# Altium footprint library PcbLib.PcbLib: 41 footprints (part 1 of 3)
Each footprint in its own frame and in the unit in brackets; x right, y up, seen from the top. Pads: shape width x height; smd on the part's side, far side on the other; paste and mask are expansions set on the pad; w line width, h text height; cw(c..) or ccw(c..) is an arc to the next point about the centre after c.
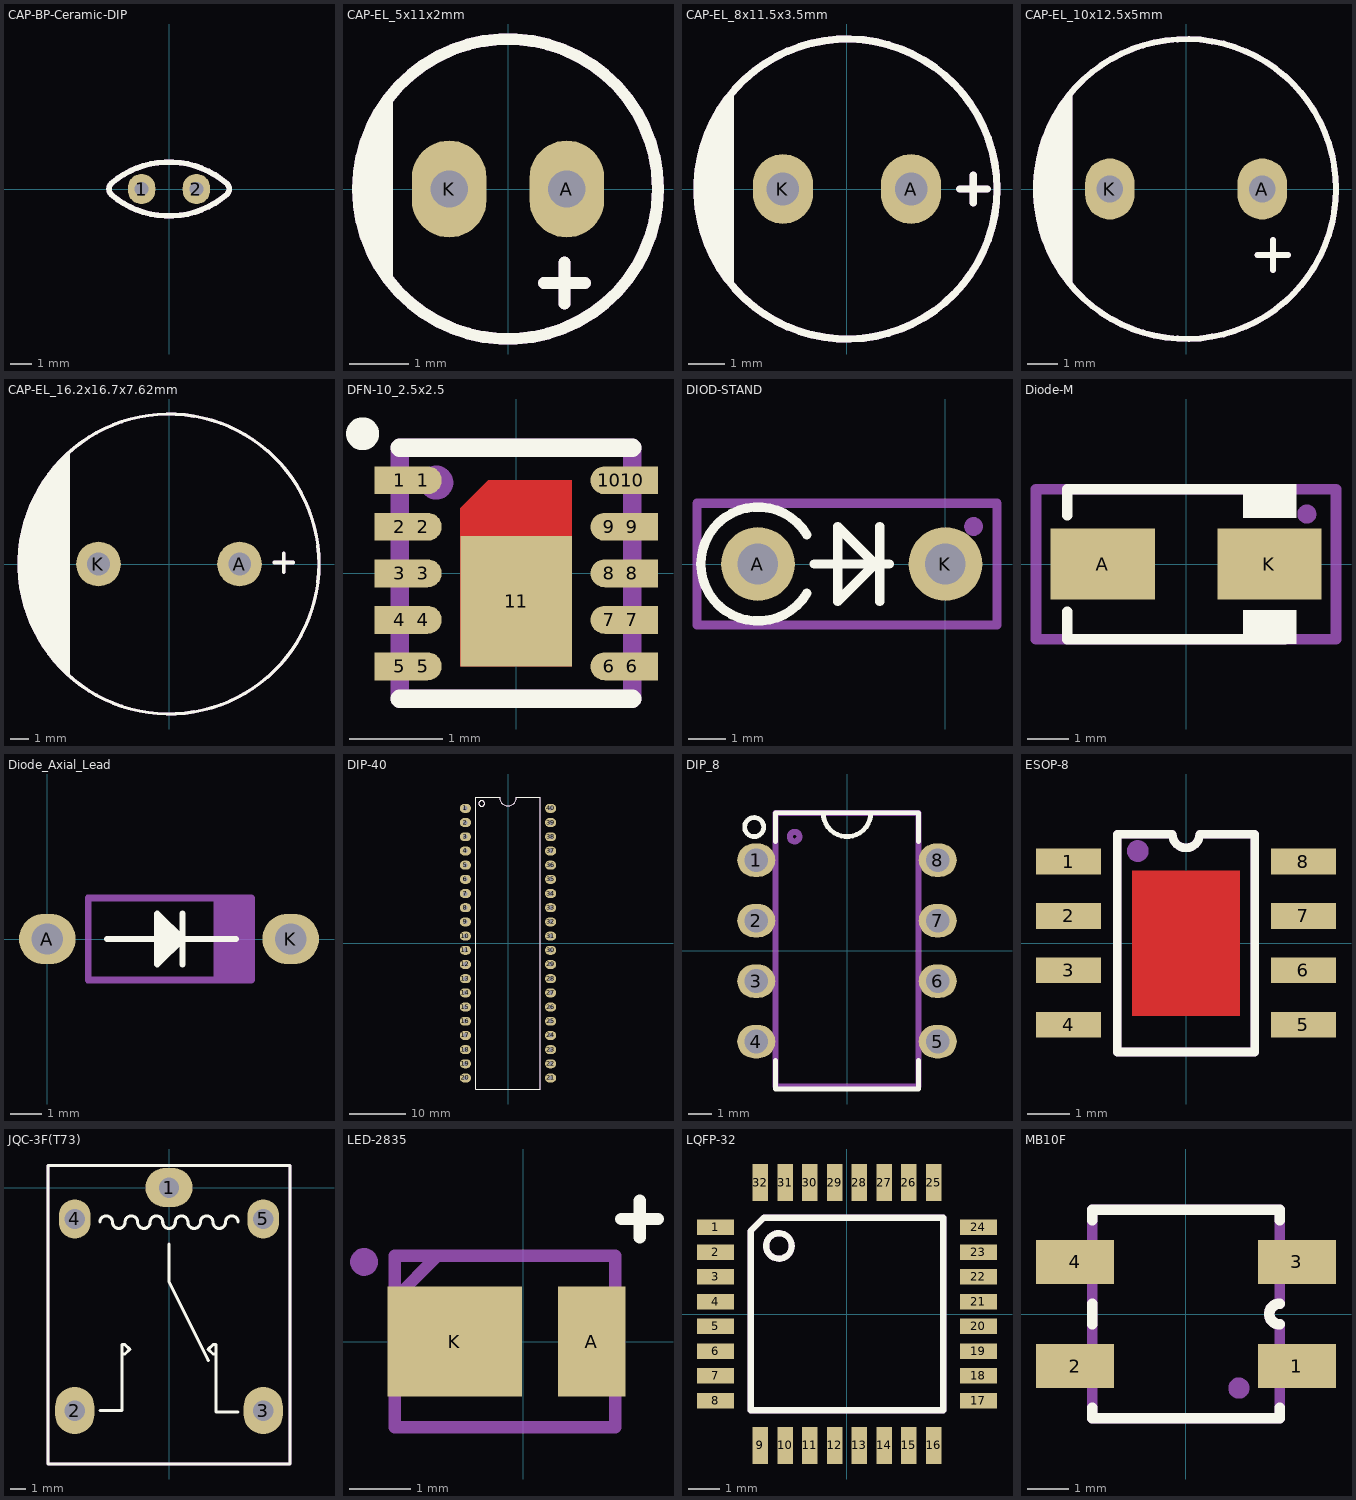
[diagram p0: the footprints below, top view; thin cyan lines are the x and y axes]

## CAP-BP-Ceramic-DIP [mil]
pads (2):
  oval 50x55 hole 25: 1(-50,0) 2(50,0)
Top Overlay:
  lines w10: -105.81,-9.79 ccw(c0,112.17) 106.05,-9.58 ; -105.81,9.79 cw(c0,-112.17) 106.05,9.58 ; -105.58,-9.52 cw(c-96.06,0) -105.58,9.52 ; 106,-9.52 ccw(c96.48,0) 106,9.52
Mechanical 29:
  lines w10: -105.81,-9.79 ccw(c0,112.17) 106.05,-9.58 ; -105.81,9.79 cw(c0,-112.17) 106.05,9.58 ; -105.58,-9.52 cw(c-96.06,0) -105.58,9.52 ; 106,-9.52 ccw(c96.48,0) 106,9.52
  text ".Designator" at -35.43,-14.44 h39.37
3D body "Cap 100n.STEP": height 272.48, standoff -39.37, extent -114.93,-34 114.93,32.79

## CAP-EL_5x11x2mm [mm]
pads (2):
  oval 1.27x1.651 hole 0.635: A(1,0) K(-1,0)
Top Overlay:
  circle w0.2: c0,0 r2.55
  region: -1.956,-1.651 -1.956,1.626 -2.21,1.295 -2.388,0.914 -2.54,0.279 -2.515,-0.457 -2.337,-1.118
  lines w0.2: 0.61,-1.6 1.31,-1.6 ; 0.96,-1.95 0.96,-1.25
Mechanical 29:
  circle w0.2: c0,0 r2.55
  region: -1.956,-1.651 -1.956,1.626 -2.21,1.295 -2.388,0.914 -2.54,0.279 -2.515,-0.457 -2.337,-1.118
  lines w0.2: 0.61,-1.6 1.31,-1.6 ; 0.96,-1.95 0.96,-1.25
  text ".Designator" at -0.8,-0.467 h1
3D body "SW3dPS-Cap electro 5x11x2mm.STEP": height 12.54, standoff -2.26, extent -2.525,-2.525 2.526,2.526

## CAP-EL_8x11.5x3.5mm [mil]
pads (2):
  oval 65x75 hole 35: A(68.9,0) K(-68.9,0)
Top Overlay:
  circle w7.87: c0,0 r161.42
  region: -122.05,-102.36 -128.32,-95.41 -139.07,-80.09 -147.88,-63.57 -154.6,-46.1 -159.13,-27.94 -161.42,-9.36 -161.42,9.36 -159.13,27.94 -154.6,46.1 -147.88,63.57 -139.07,80.09 -128.32,95.41 -122.05,102.36
  lines w7.87: 121,0 151,0 ; 136,-15 136,15
Mechanical 29:
  circle w7.87: c0,0 r161.42
  region: -122.05,-102.36 -128.32,-95.41 -139.07,-80.09 -147.88,-63.57 -154.6,-46.1 -159.13,-27.94 -161.42,-9.36 -161.42,9.36 -159.13,27.94 -154.6,46.1 -147.88,63.57 -139.07,80.09 -128.32,95.41 -122.05,102.36
  lines w7.87: 121,0 151,0 ; 136,-15 136,15
  text ".Designator" at -31.5,-18.38 h39.37
3D body "SW3dPS-Cap electro 8x11.5x3.5mm_V2008.STEP": height 473.44, standoff -136.91, extent -159.48,-159 157.48,157.96

## CAP-EL_10x12.5x5mm [mil]
pads (2):
  oval 65x80 hole 35: A(100,0) K(-100,0)
Top Overlay:
  circle w7.87: c0,0 r196.85
  region: -149.61,-129.92 -157.16,-121.09 -170.08,-101.77 -180.64,-81.07 -188.7,-59.27 -194.13,-36.67 -196.86,-13.59 -196.86,9.65 -194.13,32.73 -188.7,55.33 -180.64,77.13 -170.08,97.84 -157.16,117.15 -149.61,125.98
  lines w7.87: 93.86,-86.61 133.86,-86.61 ; 113.86,-106.61 113.86,-66.61
Mechanical 29:
  circle w7.87: c0,0 r196.85
  region: -149.61,-129.92 -157.16,-121.09 -170.08,-101.77 -180.64,-81.07 -188.7,-59.27 -194.13,-36.67 -196.86,-13.59 -196.86,9.65 -194.13,32.73 -188.7,55.33 -180.64,77.13 -170.08,97.84 -157.16,117.15 -149.61,125.98
  lines w7.87: 93.86,-86.61 133.86,-86.61 ; 113.86,-106.61 113.86,-66.61
  text ".Designator" at -31.5,-18.38 h39.37
3D body "SW3dPS-Cap electro 10x12.5x5.0mm.STEP": height 512.81, standoff -136.91, extent -197.7,-197 198,198.7

## CAP-EL_16.2x16.7x7.62mm [mil]
pads (2):
  round 95 hole 48: A(150,0) K(-150,0)
Top Overlay:
  circle w7: c0,0 r318.9
  region: -211,-238 -211,235 -241,210 -273,164 -302,100 -315,50 -319,-2 -309,-79 -286,-141 -249,-200
  lines w7.87: 224,3 264,3 ; 244,-17 244,23
Mechanical 29:
  circle w7: c0,0 r318.9
  region: -211,-238 -211,235 -241,210 -273,164 -302,100 -315,50 -319,-2 -309,-79 -286,-141 -249,-200
  lines w7.87: 224,3 264,3 ; 244,-17 244,23
  text ".Designator" at -51.18,-18.38 h39.37
3D body "SW3dPS-Cap electro 16.2x16x7.62mm_V2008.STEP": height 650.61, standoff -147.28, extent -320,-320 319.8,319.8

## DFN-10_2.5x2.5 [mm]
pads (21):
  rect 0.55x0.3 smd paste+0 mask+0.04: 1(-1.25,1) 2(-1.25,0.5) 3(-1.25,0) 4(-1.25,-0.5) 5(-1.25,-1) 6(1.25,-1) 7(1.25,-0.5) 8(1.25,0) 9(1.25,0.5) 10(1.25,1)
  oval 0.4x0.3 smd paste+0 mask+0.04: 1(-1,1) 2(-1,0.5) 3(-1,0) 4(-1,-0.5) 5(-1,-1) 6(1,-1) 7(1,-0.5) 8(1,0) 9(1,0.5) 10(1,1)
  rect 1.2x1.4 smd paste+0 mask+0.04: 11(0,-0.3)
Top Layer:
  region: -0.6,-1 0.6,-1 0.6,1 -0.3,1 -0.6,0.7
Top Overlay:
  circle w0.254: c-1.65,1.5 r0.05
  lines w0.2: -1.25,-1.35 1.25,-1.35 ; -1.25,1.35 1.25,1.35
Mechanical 29:
  circle w0.254: c-0.859,0.975 r0.056
  lines w0.2: -1.25,-1.35 1.25,-1.35 1.25,1.35 -1.25,1.35 -1.25,-1.35
  text ".Designator" at -0.7,-0.408 h0.8
3D body "Assem2.STEP": height 0.79, standoff -0.01, extent -1.26,-1.25 1.26,1.25

## DIOD-STAND [mm]
pads (2):
  round 2 hole 1.1: A(-5.08,0) K(0,0)
Top Overlay:
  lines w0.254: -3.755,-0.795 cw(c-5.08,0) -3.755,0.795 ; -3.556,0 -1.778,0 ; -1.778,-1.016 -1.778,1.016 ; -1.524,0 -1.905,0 ; -1.905,0 -2.921,-1.016 -2.921,1.016 -1.905,0
Mechanical 29:
  circle w0.254: c0.762,1.016 r0.127
  lines w0.254: -6.731,-1.651 1.397,-1.651 1.397,1.651 -6.731,1.651 -6.731,-1.651
  text ".Designator" at -4.572,-0.429 h1
3D body "stand-diod.STEP": height 7.78, standoff -1.5, extent -5.48,-1.505 1.425,1.505

## Diode-M [mm]
pads (2):
  rect 2.5x1.7 smd: A(-2,0) K(2,0)
Top Overlay:
  rectangle: 1.372,-1.923 2.65,-1.098
  rectangle: 1.372,1.1 2.65,1.925
  lines w0.254: -2.852,-1.8 2.375,-1.8 ; -2.852,-1.777 -2.852,-1.146 ; -2.848,1.168 -2.848,1.8 -2.7,1.8 2.375,1.8 ; 2.375,1.8 2.375,1.8
Mechanical 29:
  circle w0.254: c2.9,1.2 r0.1
  lines w0.254: -3.6,-1.8 3.6,-1.8 3.6,1.6 3.6,1.8 -1,1.8 -3.6,1.8 -3.6,-1.8
  text ".Designator" at -1.646,-0.413 h1
3D body "Diode SMD 1N4007-1.step": height 2.5, standoff 0.07, extent -2.65,-1.555 2.65,1.555

## Diode_Axial_Lead [mm]
pads (2):
  oval 1.8x1.6 hole 1: A(0,0) K(7.74,0)
Top Overlay:
  region: 3.5,0.8 4.3,0 3.5,-0.8
  lines w0.2: 1.9,0 6,0 ; 4.3,-0.8 4.3,0.8 ; 3.5,-0.8 4.3,0 3.5,0.8 3.5,-0.8
Mechanical 29:
  region: 1.3,-1.4 1.258,-1.4 1.2,-1.342 1.2,-1.258 1.258,-1.2 1.3,-1.2 5.3,-1.2 5.3,1.2 1.3,1.2 1.258,1.2 1.2,1.258 1.2,1.342 1.258,1.4 1.3,1.4 6.5,1.4 6.52,1.4 6.557,1.385 6.585,1.357 6.6,1.32 6.6,1.3 6.6,-1.3 6.6,-1.32 6.585,-1.357 6.557,-1.385 6.52,-1.4 6.5,-1.4
  lines w0.2: 5.4,-1.3 5.4,1.3 ; 1.3,-1.3 1.3,1.3 6.5,1.3 6.5,-1.3 1.3,-1.3
  text ".Designator" at 2.2,-0.367 h1
3D body "1n5819.STEP": height 2.85, standoff -0.5, extent -0.43,-1.351 8.17,1.351

## DIP-40 [mm]
pads (40):
  oval 2x1.6 hole 0.8: 1(-7.62,24.13) 2(-7.62,21.59) 3(-7.62,19.05) 4(-7.62,16.51) 5(-7.62,13.97) 6(-7.62,11.43) 7(-7.62,8.89) 8(-7.62,6.35) 9(-7.62,3.81) 10(-7.62,1.27) 11(-7.62,-1.27) 12(-7.62,-3.81) 13(-7.62,-6.35) 14(-7.62,-8.89) 15(-7.62,-11.43) 16(-7.62,-13.97) 17(-7.62,-16.51) 18(-7.62,-19.05) 19(-7.62,-21.59) 20(-7.62,-24.13) 21(7.62,-24.13) 22(7.62,-21.59) 23(7.62,-19.05) 24(7.62,-16.51) 25(7.62,-13.97) 26(7.62,-11.43) 27(7.62,-8.89) 28(7.62,-6.35) 29(7.62,-3.81) 30(7.62,-1.27) 31(7.62,1.27) 32(7.62,3.81) 33(7.62,6.35) 34(7.62,8.89) 35(7.62,11.43) 36(7.62,13.97) 37(7.62,16.51) 38(7.62,19.05) 39(7.62,21.59) 40(7.62,24.13)
Top Overlay:
  circle w0.2: c-4.7,25 r0.51
  lines w0.2: -5.8,-26.1 -5.8,26.1 -1.5,26.1 ccw(c0,26.1) 1.5,26.1 5.8,26.1 5.8,-26.1 -5.8,-26.1
Mechanical 29:
  circle w0.2: c-4.7,25 r0.51
  lines w0.2: -5.8,-26.1 -5.8,26.1 -1.5,26.1 ccw(c0,26.1) 1.5,26.1 5.8,26.1 5.8,-26.1 -5.8,-26.1
  text ".Designator" at 0.467,-1.8 h1
3D body "ATMEGA16-16PU.stp": height 5.83, standoff -2.5, extent -7.919,-26.162 7.918,26.162

## DIP_8 [mm] "DIP, pitch 2.54mm, 300mil Width"
pads (8):
  oval 1.6x1.4 / inner round 1.4 / far side oval 2.2x1.4 hole 1: 1(-3.81,3.81) 2(-3.81,1.27) 3(-3.81,-1.27) 4(-3.81,-3.81) 5(3.81,-3.81) 6(3.81,-1.27) 7(3.81,1.27) 8(3.81,3.81)
Top Overlay:
  circle w0.2: c-3.9,5.2 r0.4
  lines w0.2: -3,-4.6 -3,-5.8 3,-5.8 3,-4.6 ; -3,4.6 -3,5.8 3,5.8 3,4.6 ; -1,5.8 ccw(c0,5.8) 1,5.8
Mechanical 29:
  circle w0.254: c-2.2,4.8 r0.2
  lines w0.254: -3,-5.7 3,-5.7 3,5.8 -3,5.8 -3,-5.7
  text ".Designaror" at 0.233,-1.8 h0.8
3D body "CircuitWorks-DIP8.step": height 4.19, standoff -2.67, extent -3.937,-5.7 3.937,5.73

## ESOP-8 [mm]
pads (8):
  rect 1.52x0.6 smd: 1(-2.74,1.905) 2(-2.74,0.635) 3(-2.74,-0.635) 4(-2.74,-1.905) 5(2.74,-1.905) 6(2.74,-0.635) 7(2.74,0.635) 8(2.74,1.905)
Top Layer:
  rectangle: -1.256,-1.701 1.256,1.701
Top Overlay:
  lines w0.2: -1.6,-2.54 -1.6,2.54 -0.318,2.54 ccw(c0,2.54) 0.318,2.54 1.6,2.54 1.6,-2.54 -1.6,-2.54
Top Paste:
  rectangle: -1.256,-1.701 1.256,1.701
Top Solder:
  rectangle: -1.4,-1.85 1.4,1.85
Mechanical 29:
  circle w0.254: c-1.125,2.15 r0.127
  lines w0.2: -1.6,-2.54 -1.6,2.54 -0.318,2.54 ccw(c0,2.542) 0.317,2.54 1.6,2.54 1.6,-2.54 -1.6,-2.54
  text ".Designator" at 0.238,-1.121 h1
3D body "SOP8.step": height 1.75, standoff 0, extent -3.1,-2.5 3.1,2.5

## JQC-3F(T73) [mm]
pads (5):
  oval 3x2.5 hole 1.3 paste+0 mask+0.04: 1(0,0)
  oval 2.5x3 hole 1.3 paste+0 mask+0.04: 2(-6,-14.2) 3(6,-14.2)
  oval 2x2.5 hole 1.3 paste+0 mask+0.04: 4(-6,-2) 5(6,-2)
Top Overlay:
  lines w0.2: -4.4,-14.2 -3,-14.2 -3,-10 -2.8,-10 -2.5,-10.3 -2.8,-10.6 -3,-10.6 ; -4.4,-2.2 cw(c-4,-2.2) -3.6,-2.2 ccw(c-3.2,-2.2) -2.8,-2.2 cw(c-2.4,-2.2) -2,-2.2 ccw(c-1.6,-2.2) -1.2,-2.2 cw(c-0.8,-2.2) -0.4,-2.2 ccw(c0,-2.2) 0.4,-2.2 cw(c0.8,-2.2) 1.2,-2.2 ccw(c1.6,-2.2) 2,-2.2 cw(c2.4,-2.2) 2.8,-2.2 ccw(c3.2,-2.2) 3.6,-2.2 cw(c4,-2.2) 4.4,-2.2 ; 0,-3.6 0,-6 2.5,-11 ; 3,-10.6 2.8,-10.6 2.5,-10.3 2.8,-10 3,-10 3,-12 3,-14.3 4.4,-14.3 ; -7.7,-17.6 7.7,-17.6 7.7,1.4 -7.7,1.4 -7.7,-17.6
Mechanical 29:
  lines w0.2: -7.7,-17.6 7.7,-17.6 7.7,1.4 -7.7,1.4 -7.7,-17.6
  text ".Designator" at -2.8,-8.467 h1
3D body "Relay - JQC-3F(T73) - 5V.stp": height 14.94, standoff -3.61, extent -7.544,-17.447 7.544,1.247

## LED-2835 [mm]
pads (2):
  rect 1.1x1.8 smd: A(1.12,0)
  rect 2.2x1.8 smd: K(-1.12,0)
Top Overlay:
  lines w0.2: 1.6,2 2.2,2 ; 1.9,1.7 1.9,2.3
Mechanical 29:
  circle w0.254: c-2.6,1.3 r0.1
  lines w0.2: -2.1,0.7 -1.4,1.4 ; -1.4,1.4 -1.4,1.4 ; -2.1,-1.4 -2.1,1.4 1.5,1.4 1.5,-1.4 -0.5,-1.4 -2.1,-1.4 ; -1.6,1.4 -1.6,1.4
  text ".Designator" at -1.4,-0.367 h1
3D body "User Library-LED 2835.step": height 0.72, standoff 0, extent -2.038,-1.4 1.474,1.4

## LQFP-32 [mm]
pads (32):
  rect 1.2x0.5 smd: 1(-4.25,2.8) 2(-4.25,2) 3(-4.25,1.2) 4(-4.25,0.4) 5(-4.25,-0.4) 6(-4.25,-1.2) 7(-4.25,-2) 8(-4.25,-2.8) 17(4.25,-2.8) 18(4.25,-2) 19(4.25,-1.2) 20(4.25,-0.4) 21(4.25,0.4) 22(4.25,1.2) 23(4.25,2) 24(4.25,2.8)
  rect 0.5x1.2 smd: 9(-2.8,-4.25) 10(-2,-4.25) 11(-1.2,-4.25) 12(-0.4,-4.25) 13(0.4,-4.25) 14(1.2,-4.25) 15(2,-4.25) 16(2.8,-4.25) 25(2.8,4.25) 26(2,4.25) 27(1.2,4.25) 28(0.4,4.25) 29(-0.4,4.25) 30(-1.2,4.25) 31(-2,4.25) 32(-2.8,4.25)
Top Overlay:
  circle w0.2: c-2.2,2.2 r0.412
  lines w0.2: -3.115,-3.115 -3.115,2.685 -2.685,3.115 3.115,3.115 3.115,-3.115 -3.115,-3.115
Mechanical 29:
  circle w0.2: c-2.2,2.2 r0.412
  lines w0.2: -3.115,-3.115 -3.115,2.685 -2.685,3.115 3.115,3.115 3.115,-3.115 -3.115,-3.115
  text ".Designator" at -0.8,-0.367 h1
3D body "User Library-sot358-1.STEP": height 1.43, standoff -0.03, extent -4.539,-4.539 4.54,4.539

## MB10F [mm]
pads (4):
  rect 1.875x1.05 smd: 1(2.663,-1.25) 2(-2.662,-1.25) 3(2.663,1.25) 4(-2.662,1.25)
Top Overlay:
  lines w0.254: -2.25,-2.25 -2.25,-2.5 2.25,-2.5 2.25,-2.25 ; -2.25,-0.25 -2.25,0.25 ; -2.25,2.25 -2.25,2.5 2.25,2.5 2.25,2.25 ; 2.25,-0.25 cw(c2.25,0) 2.25,0.25
Mechanical 29:
  circle w0.254: c1.27,-1.778 r0.127
  lines w0.254: -2.25,-2.5 2.25,-2.5 2.25,-0.25 cw(c2.25,0) 2.25,0.25 2.25,2.5 -2.25,2.5 -2.25,-2.5
  text ".Designator" at -0.276,1.041 h1
3D body "MB10F TMBS.step": height 1.62, standoff 0.01, extent -3.463,-2.4 3.338,2.5